# Altium footprint library MPPT charger.PcbLib: 18 footprints (part 1 of 2)
Each footprint in its own frame and in the unit in brackets; x right, y up, seen from the top. Pads: shape width x height; smd on the part's side, far side on the other; paste and mask are expansions set on the pad; w line width, h text height; cw(c..) or ccw(c..) is an arc to the next point about the centre after c.
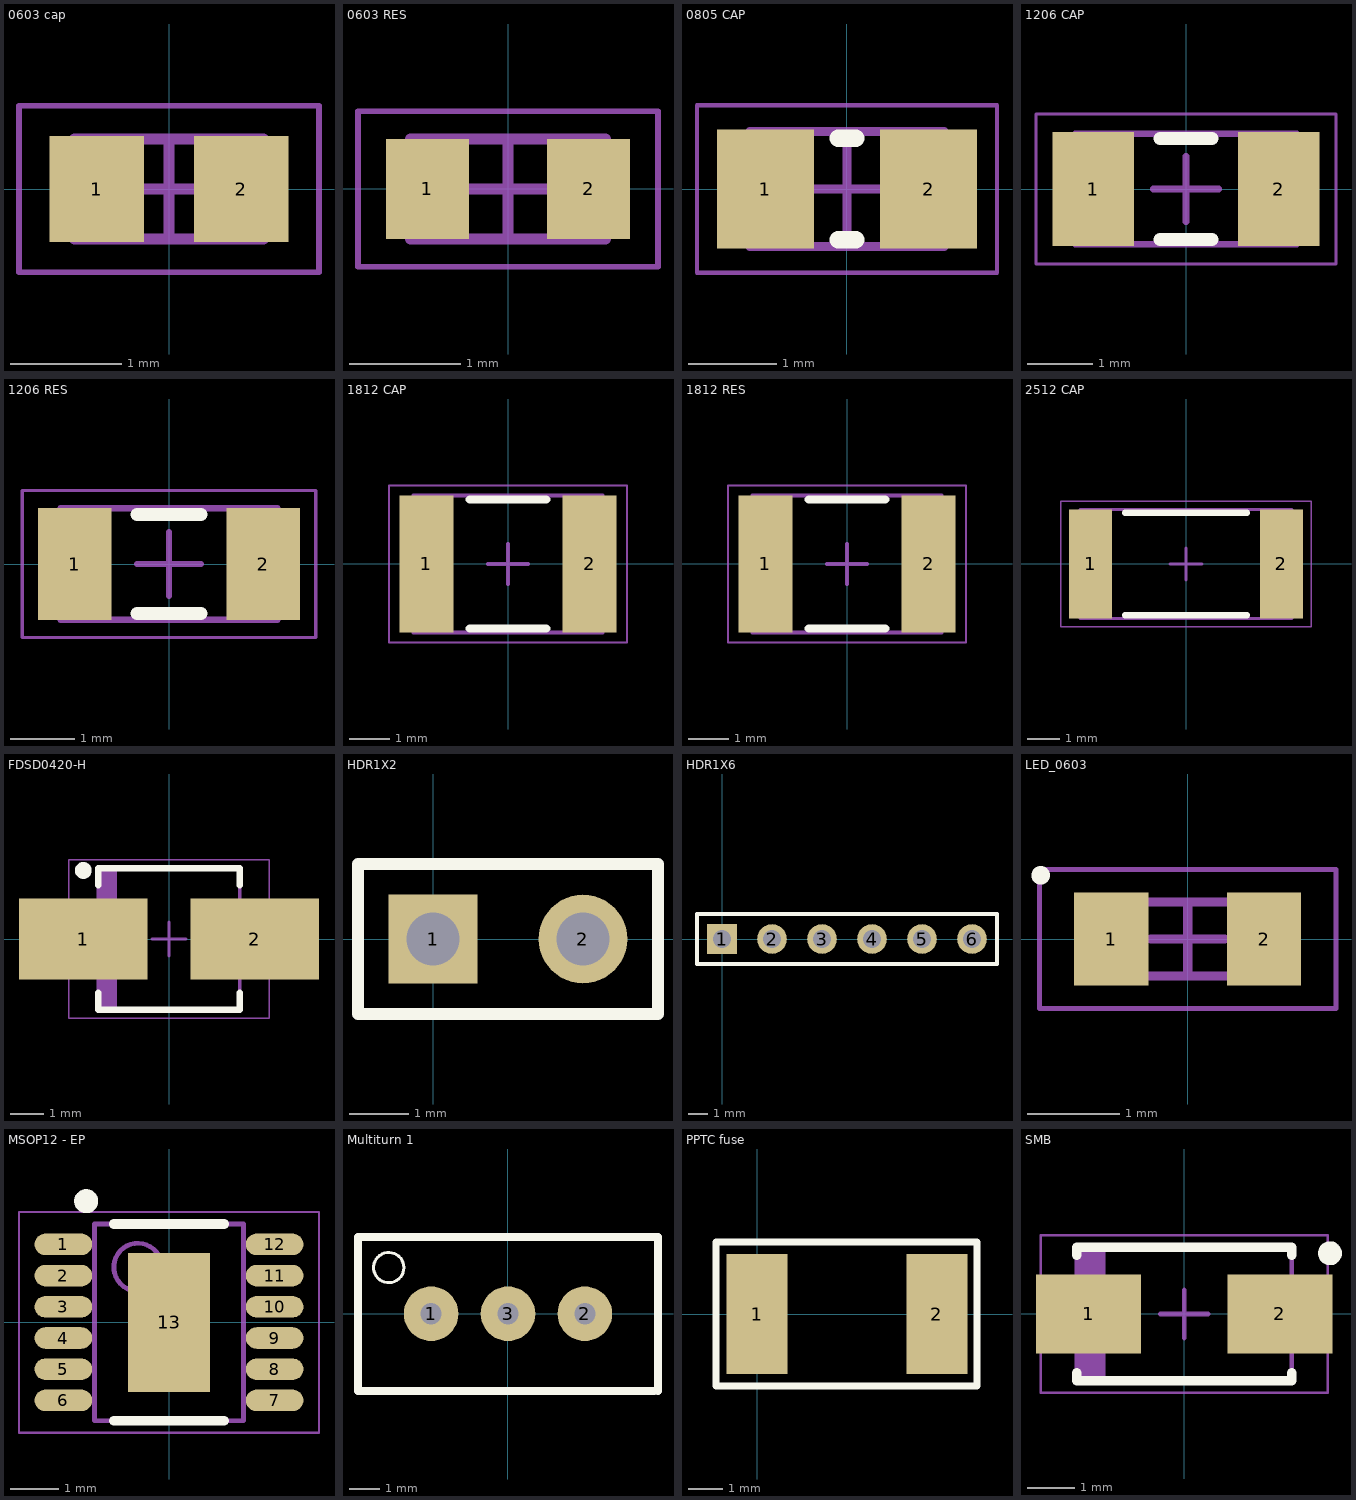
[diagram p0: the footprints below, top view; thin cyan lines are the x and y axes]

## 0603 cap [mm]
height 0.8
pads (2):
  rect 0.85x0.95 smd: 1(-0.65,0) 2(0.65,0)
Mechanical 13:
  lines w0.1: -0.85,-0.45 -0.85,0.45 0.85,0.45 0.85,-0.45 -0.85,-0.45
Mechanical 15:
  lines w0.05: -1.35,-0.75 -1.35,0.75 1.35,0.75 1.35,-0.75 -1.35,-0.75
  lines w0.1: -0.45,0 0.45,0 ; 0,-0.45 0,0.45
3D body "0603 cap.step": height 0.8, standoff 0, extent -0.85,-0.45 0.85,0.45

## 0603 RES [mm] "RES0603 medium"
height 0.4
pads (2):
  rect 0.75x0.9 smd: 1(-0.725,0) 2(0.725,0)
Mechanical 13:
  lines w0.1: -0.875,-0.45 0.875,-0.45 0.875,0.45 -0.875,0.45 -0.875,-0.45
Mechanical 15:
  lines w0.05: -1.35,-0.7 1.35,-0.7 1.35,0.7 -1.35,0.7 -1.35,-0.7
  lines w0.1: -0.45,0 0.45,0 ; 0,-0.45 0,0.45
3D body "0603.step": height 0.4, standoff 0, extent -0.875,-0.45 0.875,0.45

## 0805 CAP [mm] "0805 cap"
height 0.8
pads (2):
  rect 1.1x1.35 smd: 1(-0.925,0) 2(0.925,0)
Top Overlay:
  lines w0.2: -0.1,-0.575 0.1,-0.575 ; -0.1,0.575 0.1,0.575
Mechanical 13:
  lines w0.1: -1.1,-0.65 1.1,-0.65 1.1,0.65 -1.1,0.65 -1.1,-0.65
Mechanical 15:
  lines w0.05: -1.7,-0.95 1.7,-0.95 1.7,0.95 -1.7,0.95 -1.7,-0.95
  lines w0.1: -0.5,0 0.5,0 ; 0,-0.5 0,0.5
3D body "0805 CAP.step": height 0.8, standoff 0, extent -1.1,-0.65 1.1,0.65

## 1206 CAP [mm] "1206 cap med"
height 0.7
pads (2):
  rect 1.25x1.75 smd: 1(-1.425,0) 2(1.425,0)
Top Overlay:
  lines w0.2: -0.4,-0.775 0.4,-0.775 ; -0.4,0.775 0.4,0.775
Mechanical 13:
  lines w0.1: -1.7,-0.85 -1.7,0.85 1.7,0.85 1.7,-0.85 -1.7,-0.85
Mechanical 15:
  lines w0.05: -2.3,-1.15 -2.3,1.15 2.3,1.15 2.3,-1.15 -2.3,-1.15
  lines w0.1: -0.5,0 0.5,0 ; 0,-0.5 0,0.5
3D body "1206 CAP.step": height 0.7, standoff 0, extent -1.7,-0.85 1.7,0.85

## 1206 RES [mm] "RES1206 med"
height 0.55
pads (2):
  rect 1.15x1.75 smd: 1(-1.475,0) 2(1.475,0)
Top Overlay:
  lines w0.2: -0.5,-0.775 0.5,-0.775 ; -0.5,0.775 0.5,0.775
Mechanical 13:
  lines w0.1: -1.7,-0.875 -1.7,0.875 1.7,0.875 1.7,-0.875 -1.7,-0.875
Mechanical 15:
  lines w0.05: -2.3,-1.15 -2.3,1.15 2.3,1.15 2.3,-1.15 -2.3,-1.15
  lines w0.1: -0.5,0 0.5,0 ; 0,-0.5 0,0.5
3D body "1206.step": height 0.55, standoff 0, extent -1.7,-0.875 1.7,0.875

## 1812 CAP [mm] "1812 CAP med"
height 2
pads (2):
  rect 1.35x3.4 smd: 1(-2.025,0) 2(2.025,0)
Top Overlay:
  lines w0.2: -0.95,-1.6 0.95,-1.6 ; -0.95,1.6 0.95,1.6
Mechanical 13:
  lines w0.1: -2.35,-1.7 2.35,-1.7 2.35,1.7 -2.35,1.7 -2.35,-1.7
Mechanical 15:
  lines w0.05: -2.95,-1.95 2.95,-1.95 2.95,1.95 -2.95,1.95 -2.95,-1.95
  lines w0.1: -0.5,0 0.5,0 ; 0,-0.5 0,0.5
3D body: height 2, standoff 0, extent 1.75,-1.7 2.35,1.7
3D body: height 2, standoff 0, extent -2.35,-1.7 -1.75,1.7
3D body: height 2, standoff 0, extent -1.75,-1.7 1.75,1.7

## 1812 RES [mm] "1812 RES med"
height 0.6
pads (2):
  rect 1.35x3.4 smd: 1(-2.025,0) 2(2.025,0)
Top Overlay:
  lines w0.2: -0.95,-1.6 0.95,-1.6 ; -0.95,1.6 0.95,1.6
Mechanical 13:
  lines w0.1: -2.35,-1.7 2.35,-1.7 2.35,1.7 -2.35,1.7 -2.35,-1.7
Mechanical 15:
  lines w0.05: -2.95,-1.95 2.95,-1.95 2.95,1.95 -2.95,1.95 -2.95,-1.95
  lines w0.1: -0.5,0 0.5,0 ; 0,-0.5 0,0.5
3D body: height 0.6, standoff 0, extent 1.75,-1.7 2.35,1.7
3D body: height 0.6, standoff 0, extent -2.35,-1.7 -1.75,1.7
3D body: height 0.6, standoff 0, extent -1.75,-1.7 1.75,1.7

## 2512 CAP [mm] "2512 CAP med"
height 3
pads (2):
  rect 1.35x3.4 smd: 1(-2.975,0) 2(2.975,0)
Top Overlay:
  lines w0.2: -1.9,-1.6 1.9,-1.6 ; -1.9,1.6 1.9,1.6
Mechanical 13:
  lines w0.1: -3.3,-1.7 3.3,-1.7 3.3,1.7 -3.3,1.7 -3.3,-1.7
Mechanical 15:
  lines w0.05: -3.9,-1.95 3.9,-1.95 3.9,1.95 -3.9,1.95 -3.9,-1.95
  lines w0.1: -0.5,0 0.5,0 ; 0,-0.5 0,0.5
3D body "2512 CAP.step": height 3, standoff 0, extent -3.3,-1.7 3.3,1.7

## FDSD0420-H [mm] "Murata FDSD0420-H SMD Inductor"
pads (2):
  rect 3.81x2.4 smd: 1(-2.54,0) 2(2.54,0)
Top Overlay:
  circle w0.25: c-2.54,2.032 r0.125
  lines w0.2: -2.1,-1.6 -2.1,-2.1 2.1,-2.1 2.1,-1.6 ; -2.1,1.6 -2.1,2.1 2.1,2.1 2.1,1.6
Mechanical 13:
  rectangle: -2.1,-2.1 -1.535,2.1
  lines w0.1: -2.1,-2.1 2.1,-2.1 2.1,2.1 -2.1,2.1 -2.1,-2.1
Mechanical 15:
  lines w0.05: -2.975,-2.35 2.975,-2.35 2.975,2.35 -2.975,2.35 -2.975,-2.35
  lines w0.1: -0.5,0 0.5,0 ; 0,-0.5 0,0.5
3D body "FDSD0420-H.step": height 2.1, standoff 0, extent -2.2,-2.1 2.2,2.1

## HDR1X2 [mm] "Connector; Header; 2 Position"
pads (2):
  rect 1.5x1.5 hole 0.9: 1(0,0)
  round 1.5 hole 0.9: 2(2.54,0)
Top Overlay:
  lines w0.2: -1.27,-1.27 -1.27,1.27 3.81,1.27 3.81,-1.27 -1.27,-1.27

## HDR1X6 [mm] "Connector; Header; 6 Position"
pads (6):
  rect 1.5x1.5 hole 0.9: 1(0,0)
  round 1.5 hole 0.9: 2(2.54,0) 3(5.08,0) 4(7.62,0) 5(10.16,0) 6(12.7,0)
Top Overlay:
  lines w0.2: -1.27,-1.27 -1.27,1.27 13.97,1.27 13.97,-1.27 -1.27,-1.27

## LED_0603 [mm] "LED diode 0603"
pads (2):
  rect 0.8x1 smd: 1(-0.825,0) 2(0.825,0)
Top Overlay:
  circle w0.1: c-1.587,0.687 r0.05
Mechanical 13:
  lines w0.1: -0.9,-0.4 0.9,-0.4 0.9,0.4 -0.9,0.4 -0.9,-0.4
Mechanical 15:
  lines w0.05: -1.6,-0.75 1.6,-0.75 1.6,0.75 -1.6,0.75 -1.6,-0.75
  lines w0.1: -0.4,0 0.4,0 ; 0,-0.4 0,0.4
3D body "User Library-LED_0603_B.STEP": height 0.6, standoff 0, extent -0.8,-0.4 0.8,0.4

## MSOP12 - EP [mm] "MSOP, 12-Leads, Body 4,00x3,00mm, Pitch 0,65mm, Thermal Pad 2,90x1,70mm, IPC Medium Density"
height 1.1
pads (13):
  oval 1.2x0.45 smd: 1(-2.2,1.625) 2(-2.2,0.975) 3(-2.2,0.325) 4(-2.2,-0.325) 5(-2.2,-0.975) 6(-2.2,-1.625) 7(2.2,-1.625) 8(2.2,-0.975) 9(2.2,-0.325) 10(2.2,0.325) 11(2.2,0.975) 12(2.2,1.625)
  rect 1.7x2.9 smd: 13(0,0)
Top Overlay:
  circle w0.25: c-1.725,2.525 r0.125
  lines w0.2: -1.15,-2.05 1.15,-2.05 ; -1.15,2.05 1.15,2.05
Mechanical 13:
  circle w0.1: c-0.65,1.15 r0.5
  lines w0.1: -1.55,-2.05 -1.55,2.05 1.55,2.05 1.55,-2.05 -1.55,-2.05
Mechanical 15:
  lines w0.05: -3.125,-2.3 -3.125,2.3 3.125,2.3 3.125,-2.3 -3.125,-2.3
  lines w0.1: -0.5,0 0.5,0 ; 0,-0.5 0,0.5
3D body "User Library-msop-12.STEP": height 1.1, standoff 0, extent -2.45,-2.02 2.45,2.02

## Multiturn 1 [mm] "Multiturn Trimmer Narrow"
pads (3):
  round 1.8 hole 0.7: 1(-2.54,0) 2(2.54,0) 3(0,0)
Top Overlay:
  circle w0.1: c-3.937,1.524 r0.5
  lines w0.254: 4.826,-2.548 -4.953,-2.548 -4.953,2.532 4.953,2.532 4.953,-2.548
3D body "User Library-3299W-1-103RLF.STEP": height 11.56, standoff -6.22, extent -4.762,-1.905 4.763,4.191

## PPTC fuse [mm]
pads (2):
  rect 1.78x3.5 smd: 1(0,0) 2(5.23,0)
Top Overlay:
  lines w0.2: -1.2,-2.1 6.4,-2.1 6.4,2.1 -1.2,2.1 -1.2,-2.1
Mechanical 29:
  lines w0.1: -1.2,-2.1 6.4,-2.1 6.4,2.1 -1.2,2.1 -1.2,-2.1
3D body: height 1, standoff 0, extent -0.6,-1.8 5.9,1.8

## SMB [mm] "SMB diode SS14"
height 2.3
pads (2):
  rect 2.2x1.65 smd: 1(-2,0) 2(2,0)
Top Overlay:
  circle w0.25: c3.048,1.27 r0.125
  lines w0.2: -2.25,-1.225 -2.25,-1.4 2.25,-1.4 2.25,-1.225 ; -2.25,1.225 -2.25,1.4 2.25,1.4 2.25,1.225
Mechanical 13:
  rectangle: -2.25,-1.395 -1.645,1.395
  lines w0.1: -2.25,-1.395 -2.25,1.395 2.25,1.395 2.25,-1.395 -2.25,-1.395
Mechanical 15:
  lines w0.05: -3,-1.65 -3,1.65 3,1.65 3,-1.65 -3,-1.65
  lines w0.1: -0.5,0 0.5,0 ; 0,-0.5 0,0.5
3D body: height 2.3, standoff 0, extent -2.25,-1.395 2.25,1.395